# EAGLE library part 4049 (library h-bridge)
Hex inverting BUFFER
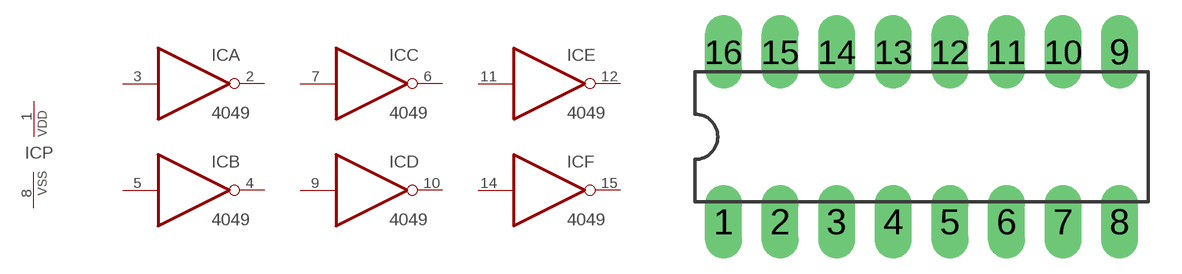
[diagram p1: symbol with the pads of DIL16; footprint DIL16]

Designator prefix IC; gates A=4049 B=4049 C=4049 D=4049 E=4049 F=4049 P=PWRN

## 4049N  [DIL16]
1  P:VDD  pwr
2  A:O  out
3  A:I  in
4  B:O  out
5  B:I  in
6  C:O  out
7  C:I  in
8  P:VSS  pwr
9  D:I  in
10  D:O  out
11  E:I  in
12  E:O  out
14  F:I  in
15  F:O  out

## Footprint DIL16 (pad centres in mm)
Dual In Line Package
drill 1.1 long: 1 -8.89,-3.81; 2 -6.35,-3.81; 3 -3.81,-3.81; 4 -1.27,-3.81; 5 1.27,-3.81; 6 3.81,-3.81; 7 6.35,-3.81; 8 8.89,-3.81; 9 8.89,3.81; 10 6.35,3.81; 11 3.81,3.81; 12 1.27,3.81; 13 -1.27,3.81; 14 -3.81,3.81; 15 -6.35,3.81; 16 -8.89,3.81